# EAGLE library part MAXSONAR (library paparazzi)
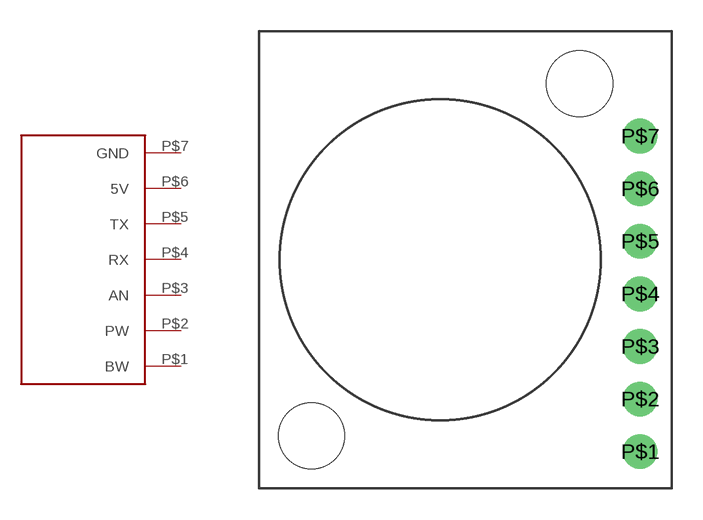
[diagram p44: symbol with the pads of MAXSONAR; footprint MAXSONAR]

Designator prefix -

## MAXSONAR  [MAXSONAR]
P$1  BW
P$2  PW
P$3  AN
P$4  RX
P$5  TX
P$6  5V
P$7  GND

## Footprint MAXSONAR (pad centres in mm)
drill 0.8 pad 1.676: P$1 18.415,1.778; P$2 18.415,4.318; P$3 18.415,6.858; P$4 18.415,9.398; P$5 18.415,11.938; P$6 18.415,14.478; P$7 18.415,17.018
hole 3.2 at 2.54,2.54
hole 3.2 at 15.494,19.558